# EAGLE library part PESD4USB5B-TBRX (library PESD4USB5B-TBRX)
NEXPERIA - PESD4USB5B-TBRX - ESD Protection Device, DFN2510A, 10 Pins, 5 V Source: Datasheet <https://assets.nexperia.com/documents/data-sheet/PESD4USB5B-TBS.pdf>
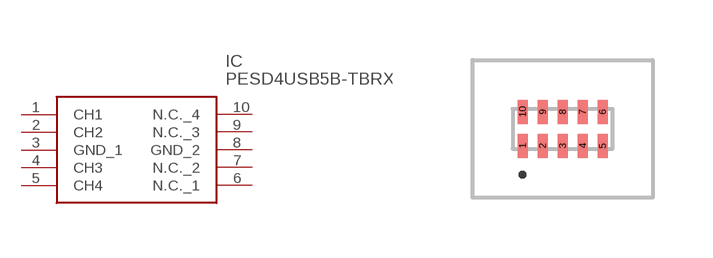
[diagram p0: symbol with the pads of PESD4USB5BTBRX; footprint PESD4USB5BTBRX]

Designator prefix IC

## PESD4USB5B-TBRX (Description: NEXPERIA - PESD4USB5B-TBRX - ESD Protection Device, DFN2510A, 10 Pins, 5 V; Height: 0.8mm; Manufacturer_Name: Nexperia; Manufacturer_Part_Number: PESD4USB5B-TBRX; Mouser_Part_Number: 771-PESD4USB5B-TBRX; Mouser_Price-Stock: https://www.mouser.co.uk/ProductDetail/Nexperia/PESD4USB5B-TBRX?qs=MyNHzdoqoQL1Wz6R0ceOBw%3D%3D)  [PESD4USB5BTBRX]
1  CH1
2  CH2
3  GND_1
4  CH3
5  CH4
6  N.C._1
7  N.C._2
8  GND_2
9  N.C._3
10  N.C._4

## Footprint PESD4USB5BTBRX (pad centres in mm)
PESD4USB5B-TBRX-1
smd 0.25 x 0.6: 1 -1,-0.425; 2 -0.5,-0.425; 3 0,-0.425; 4 0.5,-0.425; 5 1,-0.425; 6 1,0.425; 7 0.5,0.425; 8 0,0.425; 9 -0.5,0.425; 10 -1,0.425